# Altium footprint library LM555CM.PcbLib: 1 footprints
Each footprint in its own frame and in the unit in brackets; x right, y up, seen from the top. Pads: shape width x height; smd on the part's side, far side on the other; paste and mask are expansions set on the pad; w line width, h text height; cw(c..) or ccw(c..) is an arc to the next point about the centre after c.
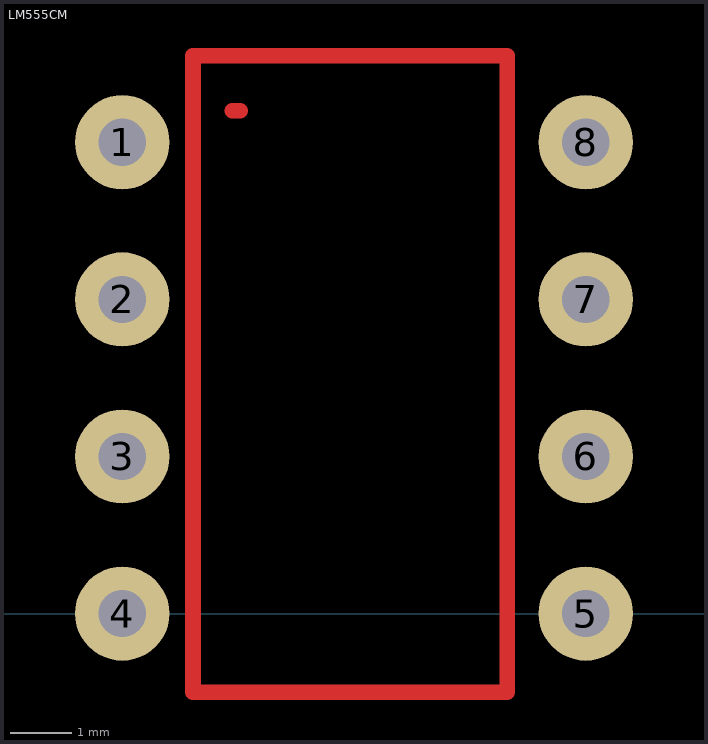
[diagram p0: the footprint, top view; thin cyan lines are the x and y axes]

## LM555CM [mil] "LM555CM IC"
pads (8):
  round 60 hole 30: 1(110,300) 2(110,200) 3(110,100) 4(110,0) 5(405,0) 6(405,100) 7(405,200) 8(405,300)
Top Layer:
  lines w10: 180,320 185,320 ; 155,-50 155,355 355,355 355,-50 155,-50